# EAGLE library part RECEPTICAL-2X5-254MM-PIZERO (library daqcs)
.100” [2.54 mm] Contact Centers, Female Headers, Straight/Right Angle/SMT
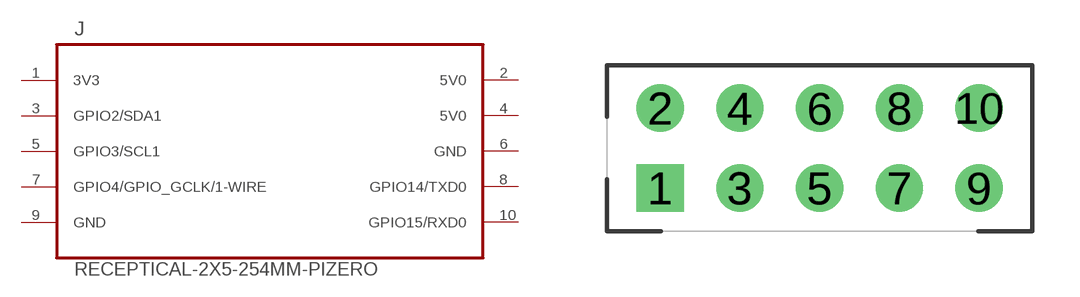
[diagram p24: symbol with the pads of RECEPTACLE-2X5-254MM; footprint RECEPTACLE-2X5-254MM]

Designator prefix J

## RECEPTICAL-2X5-254MM-PIZERO_TH (DATASHEET: HW/docs/projects/raspi_zero_power_sensor_hat/datasheets/connectors/raspi_header/78_P\(N\)PxCxxxLFBN-RC\,_10492-H.pdf; FINISH: GOLD; MANUFACTURER: Sullins; MANUFACTURER_PN: PPPC052LFBN-RC; MAX_CURRENT: 3.0A; MOUNT_ANGLE: VERTICAL; MOUNT_TYPE: TH; PITCH: 2.54mm; POSITIONS: 10; ROWS: 2; VALUE: RECEPTACLE-2x5-2.54MM; VENDOR: Digi-key; VENDOR_PN: S7108-ND)  [RECEPTACLE-2X5-254MM]
1  3V3
2  5V0
3  GPIO2/SDA1
4  5V0
5  GPIO3/SCL1
6  GND
7  GPIO4/GPIO_GCLK/1-WIRE
8  GPIO14/TXD0
9  GND
10  GPIO15/RXD0

## Footprint RECEPTACLE-2X5-254MM (pad centres in mm)
drill 1 pad 1.5 square: 1 -5.08,-1.27
drill 1 pad 1.5: 2 -5.08,1.27; 3 -2.54,-1.27; 4 -2.54,1.27; 5 0,-1.27; 6 0,1.27; 7 2.54,-1.27; 8 2.54,1.27; 9 5.08,-1.27; 10 5.08,1.27